# EAGLE library part ESDA (library MAÑE)
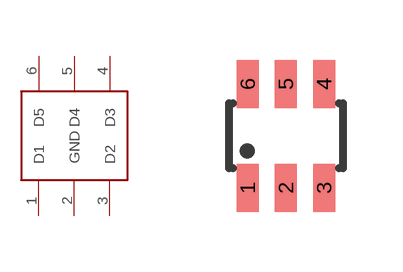
[diagram p23: symbol with the pads of SOT23-6; footprint SOT23-6]

Designator prefix -

## ESDA  [SOT23-6]
1  D1
2  GND
3  D2
4  D3
5  D4
6  D5

## Footprint SOT23-6 (pad centres in mm)
smd 0.55 x 1.2: 1 -0.955,-1.3; 2 0,-1.3; 3 0.955,-1.3; 4 0.955,1.3; 5 0,1.3; 6 -0.955,1.3